# Altium footprint library 218-8LPSTJ.PcbLib: 1 footprints
Each footprint in its own frame and in the unit in brackets; x right, y up, seen from the top. Pads: shape width x height; smd on the part's side, far side on the other; paste and mask are expansions set on the pad; w line width, h text height; cw(c..) or ccw(c..) is an arc to the next point about the centre after c.
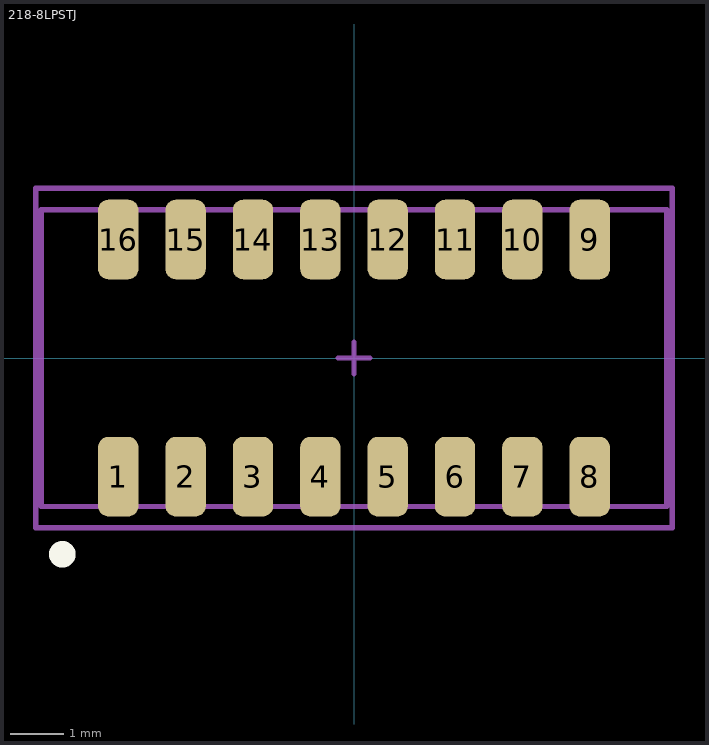
[diagram p0: the footprint, top view; thin cyan lines are the x and y axes]

## 218-8LPSTJ [mm]
pads (16):
  rrect50% 0.76x1.5 smd: 1(-4.445,-2.236) 2(-3.175,-2.236) 3(-1.905,-2.236) 4(-0.635,-2.236) 5(0.635,-2.236) 6(1.905,-2.236) 7(3.175,-2.236) 8(4.445,-2.236) 9(4.445,2.236) 10(3.175,2.236) 11(1.905,2.236) 12(0.635,2.236) 13(-0.635,2.236) 14(-1.905,2.236) 15(-3.175,2.236) 16(-4.445,2.236)
Top Overlay:
  circle w0.3: c-5.5,-3.7 r0.1
Top Assembly:
  lines w0.1: -5.9,-2.8 -5.9,2.8 5.9,2.8 5.9,-2.8 -5.9,-2.8
Top Courtyard:
  lines w0.1: -0.3,0 0.3,0 ; 0,-0.3 0,0.3 ; -6,-3.2 -6,3.2 6,3.2 6,-3.2 -6,-3.2
3D body "CHS-08TA v1.step": height 2.55, standoff 0.03, extent -5.85,-2.8 5.85,2.8